# EAGLE library part SIMLOCK-C707_10M006_512_2 (library AQ_sensor_MRC)
C707A SIMLOCK® 2.5 mm with wide solder tails Source: Data sheet <http://www.amphenol.info/downloads/C707_10M006_512_2.pdf>
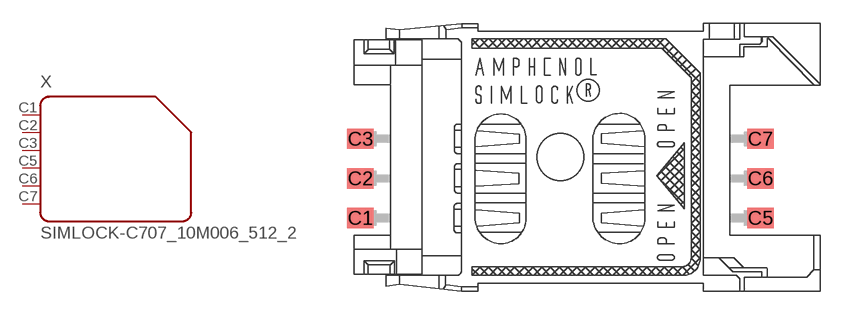
[diagram p5: symbol with the pads of C707_10M006_512_2; footprint C707_10M006_512_2]

Designator prefix X

## SIMLOCK-C707_10M006_512_2 (OC_FARNELL: unknown; OC_NEWARK: unknown)  [C707_10M006_512_2]
C1  1  pas
C2  2  pas
C3  3  pas
C5  4  pas
C6  5  pas
C7  6  pas

## Footprint C707_10M006_512_2 (pad centres in mm)
C707A SIMLOCK® 2.5 mm with wide solder tails Source: Data sheet <http://www.amphenol.info/downloads/C707_10M006_512_2.pdf>
smd 1.7 x 1.3: C1 -12.85,-3.915; C2 -12.85,-1.375; C3 -12.85,1.165; C5 12.85,-3.915; C6 12.85,-1.375; C7 12.85,1.165